# Altium footprint library SC_TO-92.PcbLib: 1 footprints
Each footprint in its own frame and in the unit in brackets; x right, y up, seen from the top. Pads: shape width x height; smd on the part's side, far side on the other; paste and mask are expansions set on the pad; w line width, h text height; cw(c..) or ccw(c..) is an arc to the next point about the centre after c.
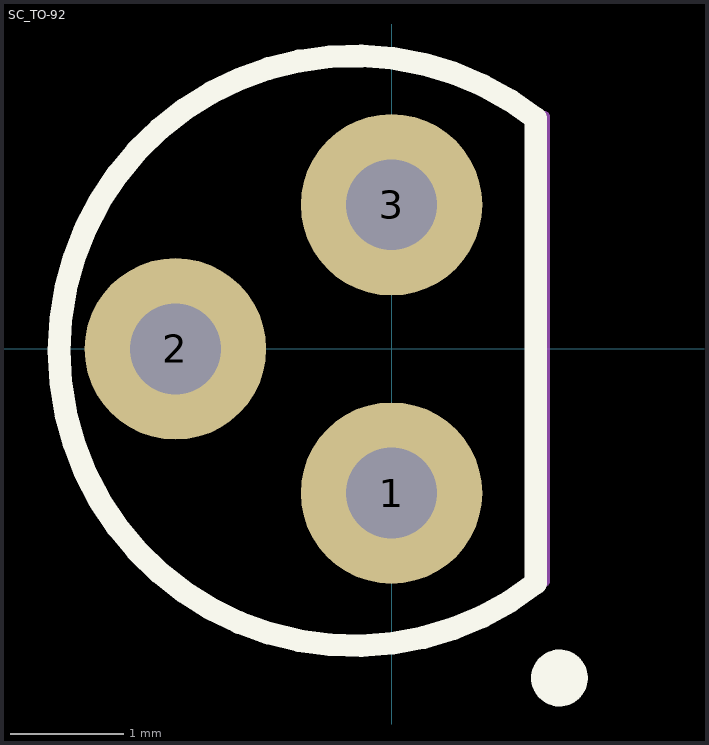
[diagram p0: the footprint, top view; thin cyan lines are the x and y axes]

## SC_TO-92 [mm] "TO, Flat Index; 3 In-Line, Axial Leads; Body Dia. 5mm; Leads 0.55 x 0.50 mm (max)"
height 5.2
pads (3):
  round 1.6 hole 0.8: 1(0,-1.27) 2(-1.905,0) 3(0,1.27)
Top Overlay:
  circle w0.25: c1.48,-2.9 r0.125
  lines w0.2: 1.27,-2.066 cw(c-0.331,-0.017) 1.27,2.032 1.27,-2.066
Mechanical 1:
  lines w0.1: 1.27,-2.066 cw(c-0.331,-0.017) 1.27,2.032 ; 1.346,-2.049 1.346,2.049
3D body: height 5.2, standoff 0, extent -2.942,-2.629 1.271,2.595